# Altium footprint library QUTMS_JST_PH.PcbLib: 3 footprints
Each footprint in its own frame and in the unit in brackets; x right, y up, seen from the top. Pads: shape width x height; smd on the part's side, far side on the other; paste and mask are expansions set on the pad; w line width, h text height; cw(c..) or ccw(c..) is an arc to the next point about the centre after c.
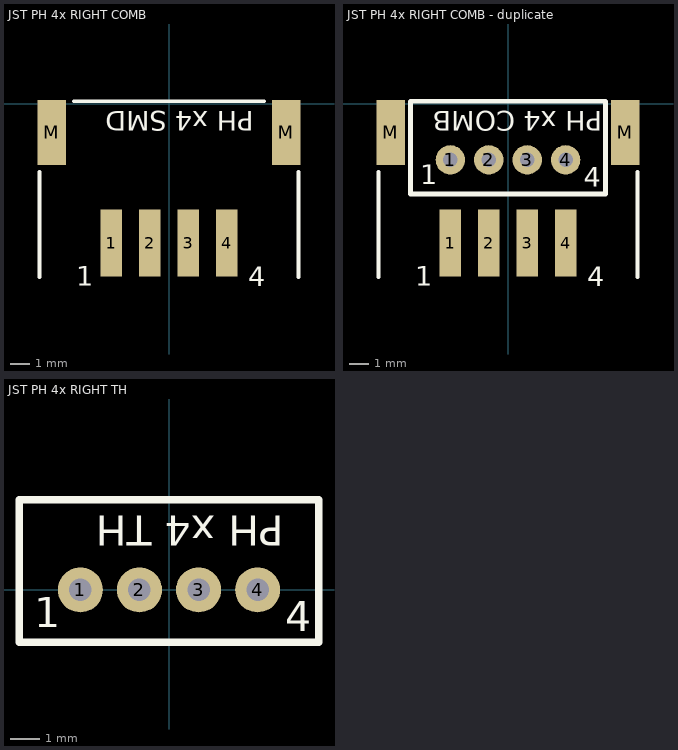
[diagram p0: the footprints below, top view; thin cyan lines are the x and y axes]

## JST PH 4x RIGHT COMB [mm]
pads (6):
  rect 1.1x3.5 smd: 1(-3,-7.25) 2(-1,-7.25) 3(1,-7.25) 4(3,-7.25)
  rect 1.5x3.4 smd: M(-6.1,-1.5) M(6.1,-1.5)
Top Overlay:
  lines w0.2: -6.731,-9.017 -6.731,-3.556 ; -4.953,0.127 4.953,0.127 ; 6.731,-9.017 6.731,-3.556
  text "4" at 4.109,-9.487 h1.02
  text "1" at -4.836,-9.477 h1.02
  text "PH x4 SMD" at 4.401,-0.406 h1.02
3D body "JST - PH - SMD (R) - 4Pin - 2.00mm.stp": height 5.38, standoff 0, extent -6.073,-8.2 6.073,0.055

## JST PH 4x RIGHT COMB - duplicate [mm]
pads (10):
  rect 1.1x3.5 smd: 1(-3,-7.25) 2(-1,-7.25) 3(1,-7.25) 4(3,-7.25)
  round 1.524 hole 0.762: 1(-3,-2.921) 2(-1,-2.921) 3(1,-2.921) 4(3,-2.921)
  rect 1.5x3.4 smd: M(-6.1,-1.5) M(6.1,-1.5)
Top Overlay:
  lines w0.2: -6.731,-9.017 -6.731,-3.556 ; -4.953,0.127 4.953,0.127 ; 6.731,-9.017 6.731,-3.556
  lines w0.254: -5.08,-4.699 -5.08,0.127 5.08,0.127 5.08,-4.699 -5.08,-4.699
  text "1" at -4.572,-4.191 h1.02
  text "4" at 3.937,-4.318 h1.02
  text "PH x4 COMB" at 4.909,-0.406 h1.02
  text "1" at -4.836,-9.477 h1.02
  text "4" at 4.109,-9.487 h1.02
3D body "JST - PH - Thru (V) - 4Pin - 2.00mm.stp": height 5.89, standoff -3.05, extent -4.931,-4.621 4.93,0.052
3D body "JST - PH - SMD (R) - 4Pin - 2.00mm.stp": height 5.38, standoff 0, extent -6.073,-8.2 6.073,0.055

## JST PH 4x RIGHT TH [mil]
pads (4):
  round 60 hole 30: 1(-118.11,0) 2(-39.37,0) 3(39.37,0) 4(118.11,0)
Top Overlay:
  lines w10: -200,-70 -200,120 200,120 200,-70 -200,-70
  text "PH x4 TH" at 153.28,99 h40
  text "1" at -180,-50 h40
  text "4" at 155,-55 h40
3D body "JST - PH - Thru (V) - 4Pin - 2.00mm.stp": height 232, standoff -120, extent -194.12,-66.93 194.1,117.07